# EAGLE library part MCP40D17 (library Bits_library_eagle)
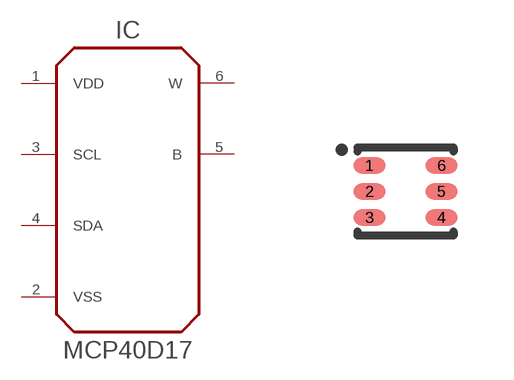
[diagram p86: symbol with the pads of SC-70-6; footprint SC-70-6]

Designator prefix IC

## MCP40D17SC70  [SC-70-6]
1  VDD  pwr
2  VSS  pwr
3  SCL
4  SDA
5  B  pas
6  W  pas

## Footprint SC-70-6 (pad centres in mm)
Small Outline Transistor
smd 0.8 x 0.4: 1 -0.9,0.65; 2 -0.9,0; 3 -0.9,-0.65; 4 0.9,-0.65; 5 0.9,0; 6 0.9,0.65